# Altium integrated library B1205S-2WR3.IntLib: 1 symbol
Pins are listed as number, name and electrical type; pins without a type are passive.

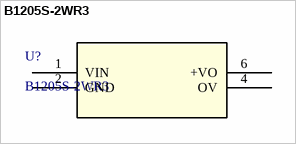
[diagram p0: symbol B1205S-2WR3]

## B1205S-2WR3
designator U?
Description; Manufacturer_Name: Hi-Link; Copyright: Copyright (C) 2026 Ultra Librarian. All rights reserved.; Manufacturer_Part_Number: B1205S-2WR3; RefDes: RefDes; Type: Type
footprint SIP_B1205S_HLK
pins: 1 VIN, 2 GND, 4 OV, 6 +VO